# EAGLE library part TPS2082 (library apple-mini)
Texas Instruments TPS2082 Power Distribution Switch The TPS2080, TPS2081, and TPS2082 dual and the TPS2085, TPS2086 and TPS2087 quad power-distribution switches are intended for applications where heavy capacitive loads and short circuits are likely to be encountered. Source: http://www.ti.com/lit/ds/symlink/tps2080.pdf
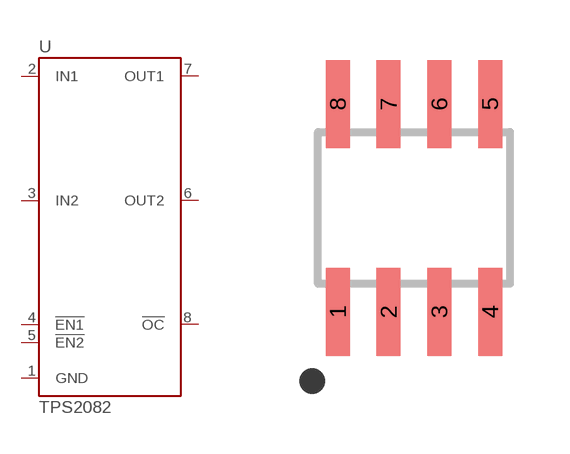
[diagram p1: symbol with the pads of SOIC8; footprint SOIC8]

Designator prefix U

## TPS2082D (MFR: Texas Instruments; MFR_PARTNO: TPS2082D)  [SOIC8]
1  GND  pwr
2  IN1  pwr
3  IN2  pwr
4  !EN1  in
5  !EN2  in
6  OUT2  pwr
7  OUT1  pwr
8  !OC  out

## Footprint SOIC8 (pad centres in mm)
Small Outline IC
smd 0.6 x 2.2: 1 -1.905,-2.6; 2 -0.635,-2.6; 3 0.635,-2.6; 4 1.905,-2.6; 5 1.905,2.6; 6 0.635,2.6; 7 -0.635,2.6; 8 -1.905,2.6